# EAGLE library part NC7NZ17 (library MCU_Print_V2)
Puffer u. Leitungstreiber UHS Triple Inverter with Schmitt Trigger, Non Inverting
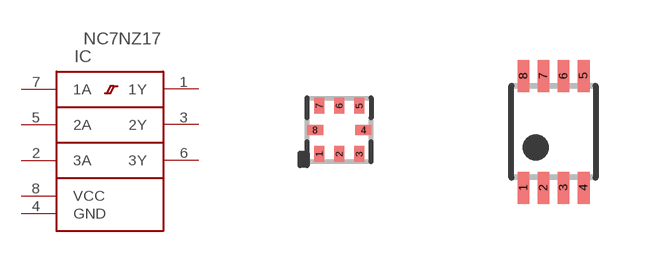
[diagram p3: symbol with the pads of MICROPAK-8; footprints MICROPAK-8, US8-8]

Designator prefix IC

## NC7NZ17L8X (CASE: 8-MicroPak™; CURRENT-OUT_HIGH-LOW: 32mA, 32mA; DIGI-KEY: NC7NZ17L8XFSCT-ND; FUNCTION: Schmitt Trigger Buffer; MANUFACTURER: ON Semiconductor; MOUSER: 512-NC7NZ17L8X; NUMBER-OF-BITS-PER-ELEMENTS: 1; NUMBER-OF-ELEMENTS: 3; OPERATING-TEMPERATURE: -40°C ~ 85°C (TA); OUTPUT-TYPE: Push-Pull; PD: 250 mW; POLARITY: Non-Inverting; PROPAGATION-DELAY-TIME: 6.6 ns at 3.3 V, 5.6 ns at 5 V; SUPPLY-CURRENT: 1 uA; SUPPLY-VOLTAGE: 1.65 V ~ 5.5 V)  [MICROPAK-8]
1  1Y  out
2  3A  in
3  2Y  out
4  GND  pwr
5  2A  in
6  3Y  out
7  1A  in
8  VCC  pwr

## NC7NZ17K8X (CASE: US8-8; CURRENT-OUT_HIGH-LOW: 32mA, 32mA; DIGI-KEY: NC7NZ17K8XCT-ND; FARNELL: 1417660; FUNCTION: Schmitt Trigger Buffer; MANUFACTURER: ON Semiconductor; MOUSER: 512-NC7NZ17K8X; NUMBER-OF-BITS-PER-ELEMENT: 1; NUMBER-OF-ELEMENTS: 3; OPERATING-TEMPERATURE: -40°C ~ 85°C (TA); OUTPUT-TYPE: Push-Pull; PD: 250 mW; POLARITY: Non-Inverting; PROPAGATION-DELAY-TIME: 6.6 ns at 3.3 V, 5.6 ns at 5 V; SUPPLY-CURRENT: 1 uA; SUPPLY-VOLTAGE: 1.65 V ~ 5.5 V)  [US8-8]
1  1A  in
2  3Y  out
3  2A  in
4  GND  pwr
5  2Y  out
6  3A  in
7  1Y  out
8  VCC  pwr

## Footprint MICROPAK-8 (pad centres in mm)
Package / Case MicroPack-8, l x p x h / 1,6 x 1,6 x 0,5 mm
smd 0.25 x 0.4: 1 -0.5,-0.605; 2 0,-0.605; 3 0.5,-0.605; 5 0.5,0.605; 6 0,0.605; 7 -0.5,0.605
smd 0.4 x 0.25: 4 0.605,0; 8 -0.605,0

## Footprint US8-8 (pad centres in mm)
Package / Case VFSOP-8, l x p x h / 2 x 2,3 x 0,7 mm
smd 0.3 x 0.8: 1 -0.75,-1.4; 2 -0.25,-1.4; 3 0.25,-1.4; 4 0.75,-1.4; 5 0.75,1.4; 6 0.25,1.4; 7 -0.25,1.4; 8 -0.75,1.4